# EAGLE library part MCP2515 (library CAN_Shiel_Lib)
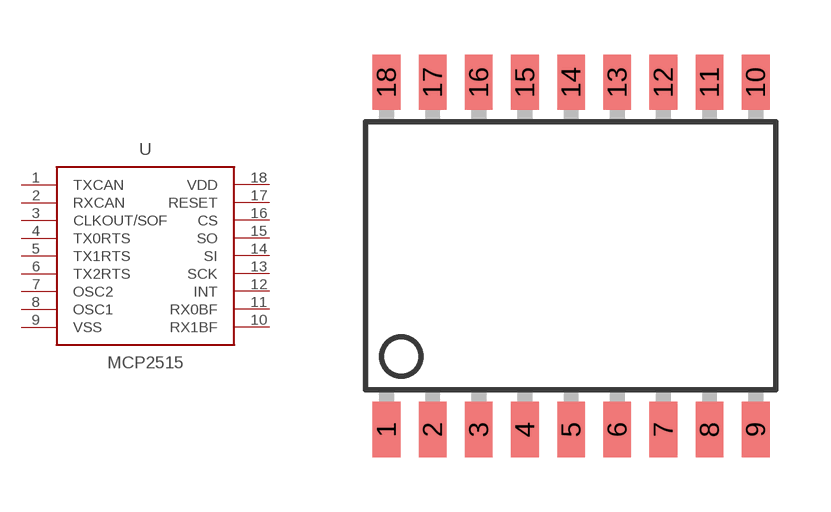
[diagram p1: symbol with the pads of SO18W; footprint SO18W]

Designator prefix -

## MCP2515  [SO18W]
1  TXCAN
2  RXCAN
3  CLKOUT/SOF
4  TX0RTS
5  TX1RTS
6  TX2RTS
7  OSC2
8  OSC1
9  VSS  pwr
10  RX1BF
11  RX0BF
12  INT
13  SCK
14  SI
15  SO
16  CS
17  RESET
18  VDD  pwr

## Footprint SO18W (pad centres in mm)
Small Outline Package
smd 0.762 x 1.524: 1 -5.08,-4.775; 2 -3.81,-4.775; 3 -2.54,-4.775; 4 -1.27,-4.775; 5 0,-4.775; 6 1.27,-4.775; 7 2.54,-4.775; 8 3.81,-4.775; 9 5.08,-4.775; 10 5.08,4.775; 11 3.81,4.775; 12 2.54,4.775; 13 1.27,4.775; 14 0,4.775; 15 -1.27,4.775; 16 -2.54,4.775; 17 -3.81,4.775; 18 -5.08,4.775